# EAGLE library part DRV8871DDA (library SW_Motor)
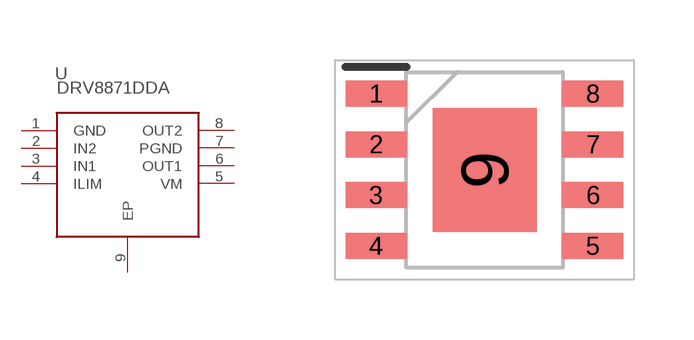
[diagram p2: symbol with the pads of SOIC127P600X170-9N; footprint SOIC127P600X170-9N]

Designator prefix U

## DRV8871DDA (CATEGORY: Motor; DESCRIPTION: Motor / Motion / Ignition Controllers & Drivers 3.6A Brushed DC Motor Driver with Integrated Current Sensing (PWM Ctrl) 8-SO PowerPAD -40 to 125; MFGS: Texas Instruments; MPNS: DRV8871DDA; PACKAGE: SOIC-8 PowerPad)  [SOIC127P600X170-9N]
1  GND  pwr
2  IN2  in
3  IN1  in
4  ILIM  in
5  VM  pwr
6  OUT1  out
7  PGND  pwr
8  OUT2  out
9  EP

## Footprint SOIC127P600X170-9N (pad centres in mm)
LMR33630ADDAR
smd 1.525 x 0.65: 1 -2.712,1.905; 2 -2.712,0.635; 3 -2.712,-0.635; 4 -2.712,-1.905; 5 2.712,-1.905; 6 2.712,-0.635; 7 2.712,0.635; 8 2.712,1.905
smd 2.6 x 3.1: 9 0,0